# EAGLE library part RJ45_POE (library mbed-connectors)
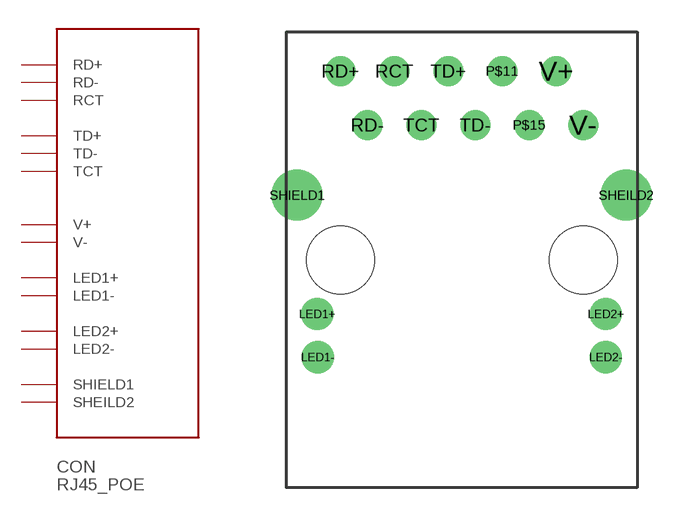
[diagram p1: symbol with the pads of RJ45_POE; footprint RJ45_POE]

Designator prefix CON

## RJ45_POE  [RJ45_POE]
LED1+  LED1+
LED1-  LED1-
LED2+  LED2+
LED2-  LED2-
RCT  RCT
RD+  RD+
RD-  RD-
SHEILD2  SHEILD2
SHIELD1  SHIELD1
TCT  TCT
TD+  TD+
TD-  TD-
V+  V+
V-  V-

## Footprint RJ45_POE (pad centres in mm)
Tyco 1-6605834-1 RJ45 Jack PoE
drill 1.016: LED1+ -6.807,-2.54; LED1- -6.782,-4.572; LED2+ 6.782,-2.54; LED2- 6.782,-4.572
drill 0.9: P$11 1.905,8.89; P$15 3.175,6.35; RCT -3.175,8.89; RD+ -5.715,8.89; RD- -4.445,6.35; TCT -1.905,6.35; TD+ -0.635,8.89; TD- 0.635,6.35; V+ 4.445,8.89; V- 5.715,6.35
drill 1.6: SHEILD2 7.747,3.048; SHIELD1 -7.747,3.048
hole 3.2 at -5.715,0
hole 3.2 at 5.715,0